# EAGLE library part LTC1730 (library adafruit_AT4004)
Linear Tech LTC1730 Lipoly charger By microbuilder.eu
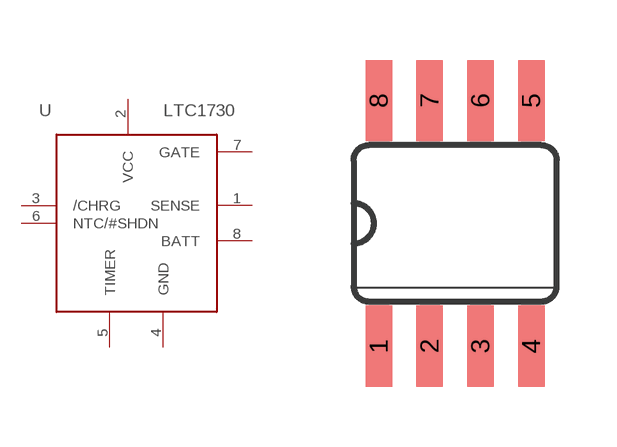
[diagram p2: symbol with the pads of SO08; footprint SO08]

Designator prefix -

## LTC1730  [SO08]
1  SENSE
2  VCC  sup
3  /CHRG
4  GND  sup
5  TIMER  pas
6  NTC/#SHDN  in
7  GATE  out
8  BATT  out

## Footprint SO08 (pad centres in mm)
smd 0.66 x 2.032: 1 -1.905,-3.073; 2 -0.635,-3.073; 3 0.635,-3.073; 4 1.905,-3.073; 5 1.905,3.073; 6 0.635,3.073; 7 -0.635,3.073; 8 -1.905,3.073